# EAGLE library part 42T?* (library trafo-xicon)
Xicon Micro-Mini EI-12 Audio Transformers 42TL/42TC/42TM Series Source: http://www.mouser.com//catalog/specsheets/164201.pdf http://www.mouser.com/catalog/specsheets/114225.pdf http://www.mouser.com/catalog/specsheets/164267.pdf
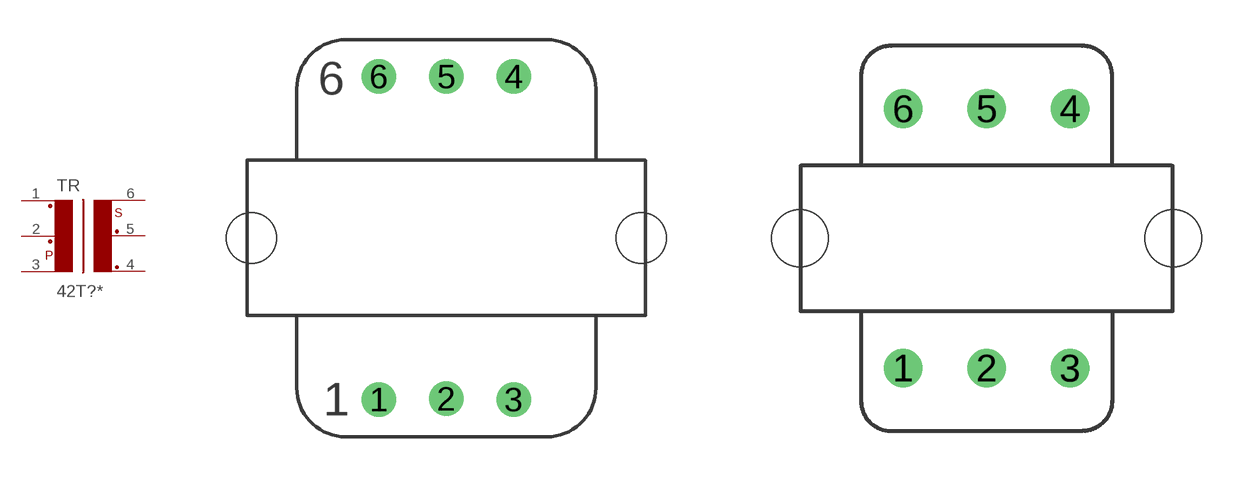
[diagram p0: symbol with the pads of 42TL; footprints 42TL, 42TC]

Designator prefix TR

## 42TL001 (OC_FARNELL: unknown; OC_NEWARK: unknown), 42TL002 (OC_FARNELL: unknown; OC_NEWARK: unknown), 42TL003 (OC_FARNELL: unknown; OC_NEWARK: unknown), 42TL004 (OC_FARNELL: unknown; OC_NEWARK: unknown), 42TL006 (OC_FARNELL: unknown; OC_NEWARK: unknown), 42TL008 (OC_FARNELL: unknown; OC_NEWARK: unknown), 42TL009 (OC_FARNELL: unknown; OC_NEWARK: unknown), 42TL011 (OC_FARNELL: unknown; OC_NEWARK: unknown), 42TL012 (OC_FARNELL: unknown; OC_NEWARK: unknown), 42TL013 (OC_FARNELL: unknown; OC_NEWARK: unknown), 42TL016 (OC_FARNELL: unknown; OC_NEWARK: unknown), 42TL017 (OC_FARNELL: unknown; OC_NEWARK: unknown), 42TL018 (OC_FARNELL: unknown; OC_NEWARK: unknown), 42TL019 (OC_FARNELL: unknown; OC_NEWARK: unknown), 42TL020 (OC_FARNELL: unknown; OC_NEWARK: unknown), 42TL021 (OC_FARNELL: unknown; OC_NEWARK: unknown), 42TL022 (OC_FARNELL: unknown; OC_NEWARK: unknown), 42TL023 (OC_FARNELL: unknown; OC_NEWARK: unknown), 42TL024 (OC_FARNELL: unknown; OC_NEWARK: unknown), 42TL025 (OC_FARNELL: unknown; OC_NEWARK: unknown), 42TL026 (OC_FARNELL: unknown; OC_NEWARK: unknown), 42TL027 (OC_FARNELL: unknown; OC_NEWARK: unknown), 42TL030 (OC_FARNELL: unknown; OC_NEWARK: unknown), 42TL031 (OC_FARNELL: unknown; OC_NEWARK: unknown), 42TL218 (OC_FARNELL: unknown; OC_NEWARK: unknown)  [42TL]
1  1  pas
2  2  pas
3  3  pas
4  4  pas
5  5  pas
6  6  pas

## 42TC001 (OC_FARNELL: unknown; OC_NEWARK: unknown), 42TC013 (OC_FARNELL: unknown; OC_NEWARK: unknown), 42TC016 (OC_FARNELL: unknown; OC_NEWARK: unknown)  [42TC]
Pads as for 42TL

## 42TC019 (OC_FARNELL: unknown; OC_NEWARK: unknown), 42TC021 (OC_FARNELL: unknown; OC_NEWARK: unknown), 42TC030 (OC_FARNELL: unknown; OC_NEWARK: unknown)  [42TC]
1  4  pas
2  5  pas
3  6  pas
4  1  pas
5  2  pas
6  3  pas

## 42TM001 (OC_FARNELL: unknown; OC_NEWARK: unknown), 42TM002 (OC_FARNELL: unknown; OC_NEWARK: unknown), 42TM003 (OC_FARNELL: unknown; OC_NEWARK: unknown), 42TM004 (OC_FARNELL: unknown; OC_NEWARK: unknown), 42TM006 (OC_FARNELL: unknown; OC_NEWARK: unknown), 42TM008 (OC_FARNELL: unknown; OC_NEWARK: unknown), 42TM009 (OC_FARNELL: unknown; OC_NEWARK: unknown), 42TM010 (OC_FARNELL: unknown; OC_NEWARK: unknown), 42TM011 (OC_FARNELL: unknown; OC_NEWARK: unknown), 42TM012 (OC_FARNELL: unknown; OC_NEWARK: unknown), 42TM013 (OC_FARNELL: unknown; OC_NEWARK: unknown), 42TM016 (OC_FARNELL: unknown; OC_NEWARK: unknown), 42TM017 (OC_FARNELL: unknown; OC_NEWARK: unknown), 42TM018 (OC_FARNELL: unknown; OC_NEWARK: unknown), 42TM019 (OC_FARNELL: unknown; OC_NEWARK: unknown), 42TM020 (OC_FARNELL: unknown; OC_NEWARK: unknown), 42TM021 (OC_FARNELL: unknown; OC_NEWARK: unknown), 42TM022 (OC_FARNELL: unknown; OC_NEWARK: unknown), 42TM023 (OC_FARNELL: unknown; OC_NEWARK: unknown), 42TM024 (OC_FARNELL: unknown; OC_NEWARK: unknown), 42TM025 (OC_FARNELL: unknown; OC_NEWARK: unknown), 42TM026 (OC_FARNELL: unknown; OC_NEWARK: unknown), 42TM027 (OC_FARNELL: unknown; OC_NEWARK: unknown), 42TM030 (OC_FARNELL: unknown; OC_NEWARK: unknown), 42TM031 (OC_FARNELL: unknown; OC_NEWARK: unknown), 42TM114 (OC_FARNELL: unknown; OC_NEWARK: unknown), 42TM117 (OC_FARNELL: unknown; OC_NEWARK: unknown), 42TM118 (OC_FARNELL: unknown; OC_NEWARK: unknown)  [42TM]
Pads as for 42TL

## Footprint 42TL (pad centres in mm)
Xicon Ultra-Mini Audio Transformer 42TL Series Category: Audio & Signal Transformers Source: http://www.mouser.com//catalog/specsheets/164201.pdf
drill 0.7 pad 1.3 round: 1 -2.54,-6.096; 2 0,-6.068; 3 2.54,-6.096; 4 2.54,6.096; 5 0,6.096; 6 -2.54,6.096
hole 1.9 at -7.353,0
hole 1.9 at 7.353,0

## Footprint 42TC (pad centres in mm)
Xicon Ultra-Mini Audio Transformer 42TC Series Source: http://www.mouser.com/catalog/specsheets/114225.pdf
drill 0.7 pad 1.3 round: 1 -2.794,-4.343; 2 0,-4.343; 3 2.794,-4.343; 4 2.794,4.343; 5 0,4.343; 6 -2.794,4.343
hole 1.9 at -6.248,0
hole 1.9 at 6.248,0

## Footprint 42TM (pad centres in mm)
Xicon Ultra-Mini Audio Transformer 42TM Series Source: http://www.mouser.com/catalog/specsheets/164267.pdf
drill 0.7 pad 1.3 round: 1 -3.556,-6.35; 2 0,-6.35; 3 3.556,-6.35; 4 3.556,6.35; 5 0,6.35; 6 -3.556,6.35
hole 1.9 at -9.982,0
hole 1.9 at 9.982,0